# Altium footprint library Fuse_SMD.PcbLib: 2 footprints
Each footprint in its own frame and in the unit in brackets; x right, y up, seen from the top. Pads: shape width x height; smd on the part's side, far side on the other; paste and mask are expansions set on the pad; w line width, h text height; cw(c..) or ccw(c..) is an arc to the next point about the centre after c.
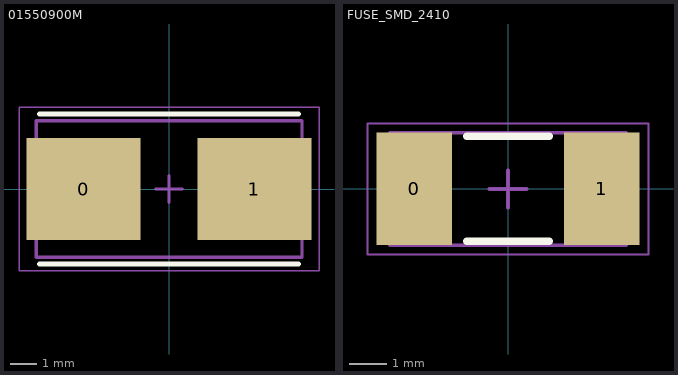
[diagram p0: the footprints below, top view; thin cyan lines are the x and y axes]

## 01550900M [mm] "Chip Diode, 2-Leads, Body 6.10x2.70mm, IPC Medium Density"
height 2.7
pads (2):
  rect 4.24x3.81 smd: 0(-3.185,0) 1(3.185,0)
Top Overlay:
  lines w0.2: -4.826,-2.794 4.826,-2.794 ; -4.826,2.794 4.826,2.794
Top Designator:
  text ".Designator" at -6.018,-0.4 h1.2
Mechanical 13:
  lines w0.127: -4.953,-2.54 -4.953,2.54 4.953,2.54 4.953,-2.54 -4.953,-2.54
Mechanical 15:
  lines w0.05: -5.588,-3.048 5.588,-3.048 5.588,3.048 -5.588,3.048 -5.588,-3.048
  lines w0.1: -0.5,0 0.5,0 ; 0,-0.5 0,0.5
3D body "01550900M--3DModel-STEP-56544.STEP": height 3.81, standoff 0, extent -4.865,-2.515 4.865,2.515

## FUSE_SMD_2410 [mm] "Chip Diode, 2-Leads, Body 6.10x2.70mm, IPC Medium Density"
height 2.7
pads (2):
  rect 2x3 smd: 0(-2.5,0) 1(2.5,0)
Top Overlay:
  lines w0.2: -1.1,-1.4 1.1,-1.4 ; -1.1,1.4 1.1,1.4
Top Designator:
  text ".Designator" at -6.018,-0.4 h1.2
Mechanical 13:
  lines w0.1: -3.15,-1.5 -3.15,1.5 3.15,1.5 3.15,-1.5 -3.15,-1.5
Mechanical 15:
  lines w0.05: -3.75,-1.75 -3.75,1.75 3.75,1.75 3.75,-1.75 -3.75,-1.75
  lines w0.1: -0.5,0 0.5,0 ; 0,-0.5 0,0.5
3D body "DIOC6127X27N.step": height 2.7, standoff 0, extent -3.15,-1.5 3.15,1.5